# Altium schematic symbol library Display-NHD-C12832.SchLib: 1 symbol
Pins are listed as number, name and electrical type; pins without a type are passive.

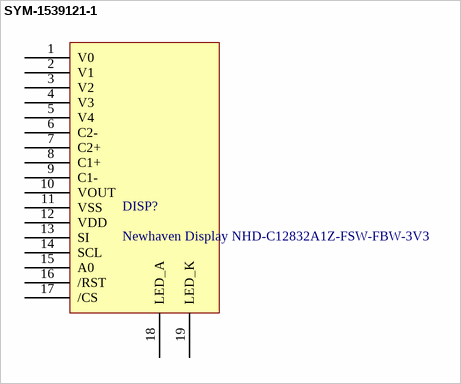
[diagram p0: symbol SYM-1539121-1]

## SYM-1539121-1
designator DISP?, comment Newhaven Display NHD-C12832A1Z-FSW-FBW-3V3
footprint PCB-1539121-1
pins: 1 V0, 2 V1, 3 V2, 4 V3, 5 V4, 6 C2-, 7 C2+, 8 C1+, 9 C1-, 10 VOUT, 11 VSS, 12 VDD, 13 SI, 14 SCL, 15 A0, 16 /RST, 17 /CS, 18 LED_A, 19 LED_K